# EAGLE library part TRIODE_7233 (library wheat)
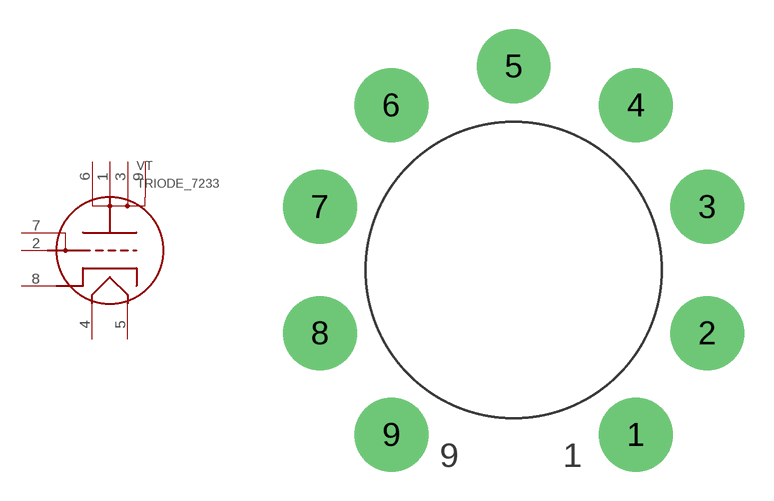
[diagram p281: symbol with the pads of NOVAL_PCB; footprint NOVAL_PCB]

Designator prefix VT

## TRIODE_7233  [NOVAL_PCB]
1  A  pas
2  G  pas
3  A1  pas
4  H1  pas
5  H2  pas
6  A2  pas
7  G1  pas
8  K  pas
9  A3  pas

## Footprint NOVAL_PCB (pad centres in mm)
TUBE SOCKET, NOVAL PCB
drill 1.93 pad 3.81: 1 6.299,-8.484; 2 9.982,-3.251; 3 9.982,3.251; 4 6.299,8.484; 5 0,10.49; 6 -6.299,8.484; 7 -9.982,3.251; 8 -9.982,-3.251; 9 -6.299,-8.484